# EAGLE library part HEF4894BP (library 1A-meinLib)
12-stage shift and store register, 5..15V, 10MHz(5V), NXP
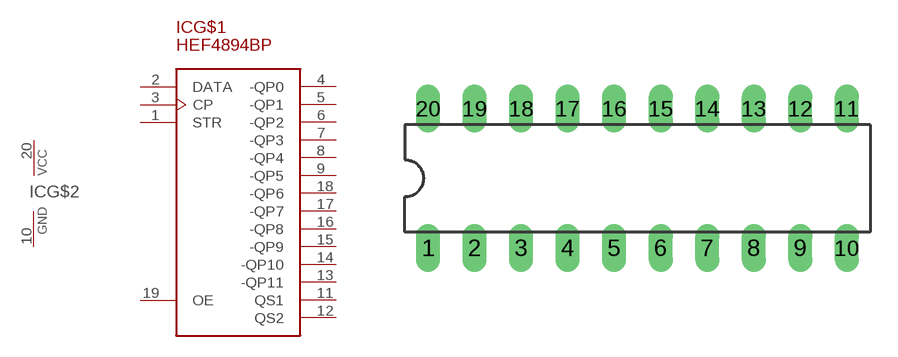
[diagram p288: symbol with the pads of DIL20; footprint DIL20]

Designator prefix IC; gates G$1=HEF4894BP G$2=PWRN

## HEF4894BP  [DIL20]
1  G$1:STR  in
2  G$1:DATA  in
3  G$1:CP  in
4  G$1:-QP0  oc
5  G$1:-QP1  oc
6  G$1:-QP2  oc
7  G$1:-QP3  oc
8  G$1:-QP4  oc
9  G$1:-QP5  oc
10  G$2:GND  pwr
11  G$1:QS1  out
12  G$1:QS2  out
13  G$1:-QP11  oc
14  G$1:-QP10  oc
15  G$1:-QP9  oc
16  G$1:-QP8  oc
17  G$1:-QP7  oc
18  G$1:-QP6  oc
19  G$1:OE  in
20  G$2:VCC  pwr

## Footprint DIL20 (pad centres in mm)
drill 0.813 long: 1 -10.16,-3.81; 2 -7.62,-3.81; 3 -5.08,-3.81; 4 -2.54,-3.81; 5 0,-3.81; 6 2.54,-3.81; 7 5.08,-3.81; 8 7.62,-3.81; 9 10.16,-3.81; 10 12.7,-3.81; 11 12.7,3.81; 12 10.16,3.81; 13 7.62,3.81; 14 5.08,3.81; 15 2.54,3.81; 16 0,3.81; 17 -2.54,3.81; 18 -5.08,3.81; 19 -7.62,3.81; 20 -10.16,3.81